# EAGLE library part MKE14F512LL16 (library PowerManagement)
ARM® Cortex®-M4F Kinetis KE1xF Microcontroller IC 32-Bit 168MHz 512KB (512K x 8) FLASH 100-LQFP (14x14)
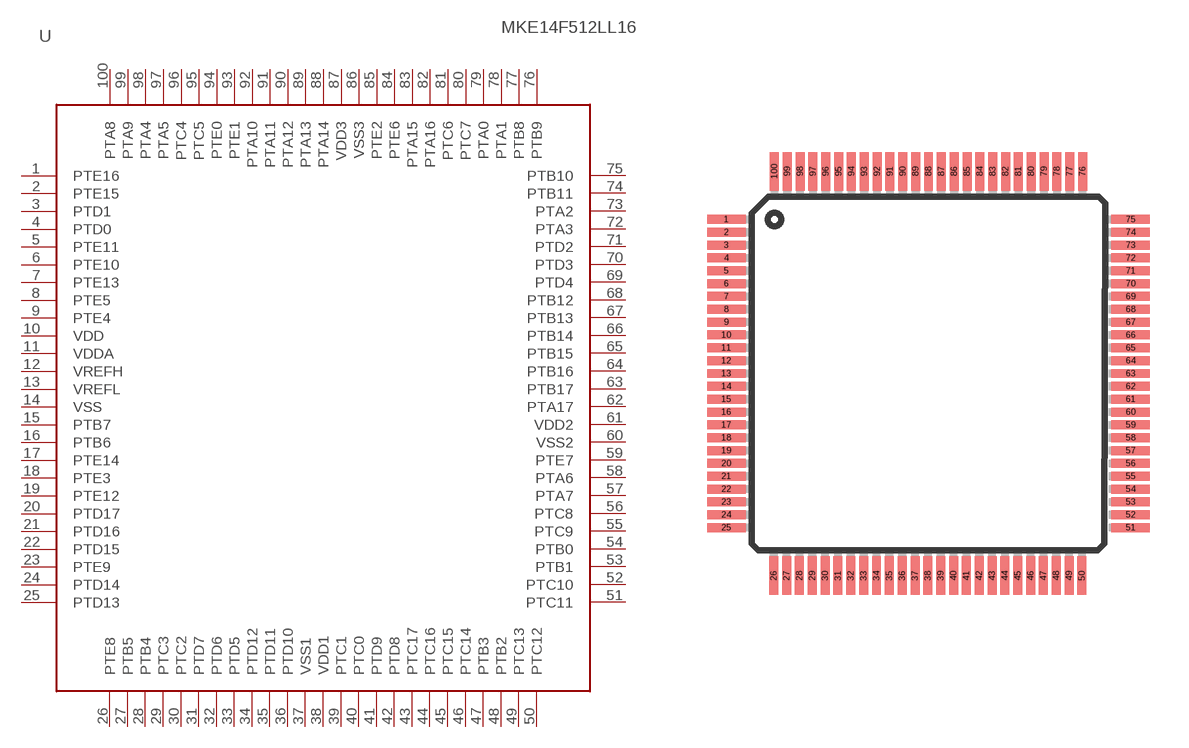
[diagram p0: symbol with the pads of LQFP100; footprint LQFP100]

Designator prefix U

## MKE14F512LL16  [LQFP100]
1  PTE16
2  PTE15
3  PTD1
4  PTD0
5  PTE11
6  PTE10
7  PTE13
8  PTE5
9  PTE4
10  VDD  pwr
11  VDDA  pwr
12  VREFH  pwr
13  VREFL  pwr
14  VSS  pwr
15  PTB7
16  PTB6
17  PTE14
18  PTE3
19  PTE12
20  PTD17
21  PTD16
22  PTD15
23  PTE9
24  PTD14
25  PTD13
26  PTE8
27  PTB5
28  PTB4
29  PTC3
30  PTC2
31  PTD7
32  PTD6
33  PTD5
34  PTD12
35  PTD11
36  PTD10
37  VSS1  pwr
38  VDD1  pwr
39  PTC1
40  PTC0
41  PTD9
42  PTD8
43  PTC17
44  PTC16
45  PTC15
46  PTC14
47  PTB3
48  PTB2
49  PTC13
50  PTC12
51  PTC11
52  PTC10
53  PTB1
54  PTB0
55  PTC9
56  PTC8
57  PTA7
58  PTA6
59  PTE7
60  VSS2  pwr
61  VDD2  pwr
62  PTA17
63  PTB17
64  PTB16
65  PTB15
66  PTB14
67  PTB13
68  PTB12
69  PTD4
70  PTD3
71  PTD2
72  PTA3
73  PTA2
74  PTB11
75  PTB10
76  PTB9
77  PTB8
78  PTA1
79  PTA0
80  PTC7
81  PTC6
82  PTA16
83  PTA15
84  PTE6
85  PTE2
86  VSS3  pwr
87  VDD3  pwr
88  PTA14
89  PTA13
90  PTA12
91  PTA11
92  PTA10
93  PTE1
94  PTE0
95  PTC5
96  PTC4
97  PTA5
98  PTA4
99  PTA9
100  PTA8

## Footprint LQFP100 (pad centres in mm)
LQFP 100 Source: 6120s.pdf
smd 1.5 x 0.35: 1 -7.875,6; 2 -7.875,5.5; 3 -7.875,5; 4 -7.875,4.5; 5 -7.875,4; 6 -7.875,3.5; 7 -7.875,3; 8 -7.875,2.5; 9 -7.875,2; 10 -7.875,1.5; 11 -7.875,1; 12 -7.875,0.5; 13 -7.875,0; 14 -7.875,-0.5; 15 -7.875,-1; 16 -7.875,-1.5; 17 -7.875,-2; 18 -7.875,-2.5; 19 -7.875,-3; 20 -7.875,-3.5; 21 -7.875,-4; 22 -7.875,-4.5; 23 -7.875,-5; 24 -7.875,-5.5; 25 -7.875,-6; 51 7.875,-6; 52 7.875,-5.5; 53 7.875,-5; 54 7.875,-4.5; 55 7.875,-4; 56 7.875,-3.5; 57 7.875,-3; 58 7.875,-2.5; 59 7.875,-2; 60 7.875,-1.5; 61 7.875,-1; 62 7.875,-0.5; 63 7.875,0; 64 7.875,0.5; 65 7.875,1; 66 7.875,1.5; 67 7.875,2; 68 7.875,2.5; 69 7.875,3; 70 7.875,3.5; 71 7.875,4; 72 7.875,4.5; 73 7.875,5; 74 7.875,5.5; 75 7.875,6
smd 0.35 x 1.5: 26 -6.025,-7.875; 27 -5.525,-7.875; 28 -5.025,-7.875; 29 -4.525,-7.875; 30 -4.025,-7.875; 31 -3.525,-7.875; 32 -3.025,-7.875; 33 -2.525,-7.875; 34 -2.025,-7.875; 35 -1.525,-7.875; 36 -1.025,-7.875; 37 -0.525,-7.875; 38 -0.025,-7.875; 39 0.475,-7.875; 40 0.975,-7.875; 41 1.475,-7.875; 42 1.975,-7.875; 43 2.475,-7.875; 44 2.975,-7.875; 45 3.475,-7.875; 46 3.975,-7.875; 47 4.475,-7.875; 48 4.975,-7.875; 49 5.475,-7.875; 50 5.975,-7.875; 76 6,7.875; 77 5.5,7.875; 78 5,7.875; 79 4.5,7.875; 80 4,7.875; 81 3.5,7.875; 82 3,7.875; 83 2.5,7.875; 84 2,7.875; 85 1.5,7.875; 86 1,7.875; 87 0.5,7.875; 88 0,7.875; 89 -0.5,7.875; 90 -1,7.875; 91 -1.5,7.875; 92 -2,7.875; 93 -2.5,7.875; 94 -3,7.875; 95 -3.5,7.875; 96 -4,7.875; 97 -4.5,7.875; 98 -5,7.875; 99 -5.5,7.875; 100 -6,7.875